# Altium footprint library Componets.PcbLib: 4 footprints
Each footprint in its own frame and in the unit in brackets; x right, y up, seen from the top. Pads: shape width x height; smd on the part's side, far side on the other; paste and mask are expansions set on the pad; w line width, h text height; cw(c..) or ccw(c..) is an arc to the next point about the centre after c.
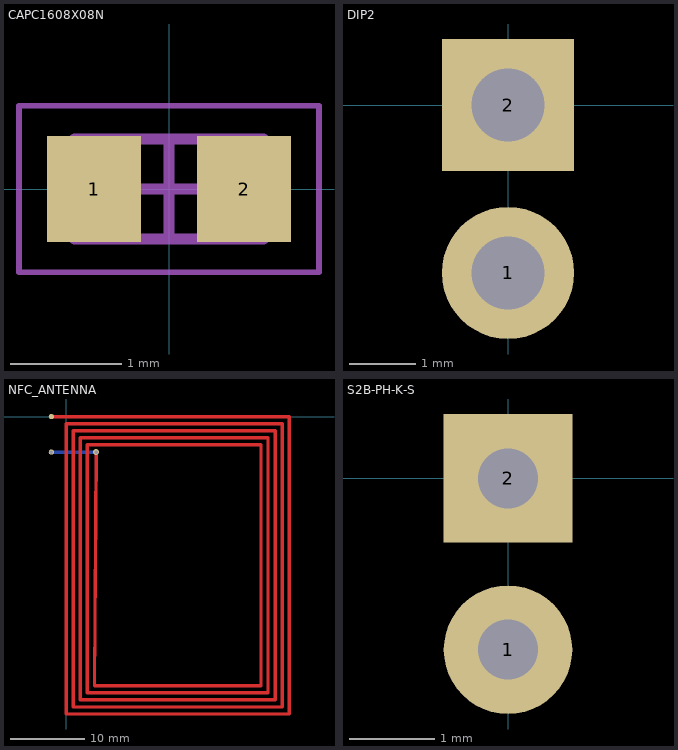
[diagram p0: the footprints below, top view; thin cyan lines are the x and y axes]

## CAPC1608X08N [mm] "Chip Capacitor, 2-Leads, Body 1,60x0,80mm, IPC Medium Density"
height 0.8
pads (2):
  rect 0.85x0.95 smd: 1(-0.675,0) 2(0.675,0)
Mechanical 13:
  lines w0.1: -0.85,-0.45 -0.85,0.45 0.85,0.45 0.85,-0.45 -0.85,-0.45
Mechanical 15:
  lines w0.05: -1.35,-0.75 -1.35,0.75 1.35,0.75 1.35,-0.75 -1.35,-0.75
  lines w0.1: -0.45,0 0.45,0 ; 0,-0.45 0,0.45
3D body "CAPC1608X08N.step": height 0.8, standoff 0, extent -0.85,-0.45 0.85,0.45

## DIP2 [mm]
pads (2):
  round 2 hole 1.1: 1(0,-2.54)
  rect 2x2 hole 1.1: 2(0,0)

## NFC_ANTENNA [mm]
pads (2):
  round 0.7 hole 0.45 unplated: 1(-2,-4.775)
  round 0.7 smd: 2(-2,0)
via 4.025,-4.775 diameter 0.8 hole 0.45
Top Layer:
  lines w0.45: -2,0 0,0 30,0 30,-40 0,-40 0,-0.95 29.05,-0.95 29.05,-39.05 0.95,-39.05 0.95,-1.9 28.1,-1.9 28.1,-38.1 1.9,-38.1 1.9,-2.85 27.15,-2.85 27.15,-37.15 2.85,-37.15 2.85,-3.8 26.2,-3.8 26.2,-36.2 3.8,-36.2 4.025,-4.775
Bottom Layer:
  lines w0.45: -2,-4.775 4.025,-4.775

## S2B-PH-K-S [mm]
pads (2):
  round 1.5 hole 0.7: 1(0,-2)
  rect 1.5x1.5 hole 0.7: 2(0,0)
3D body "S2B-PH-K-S.STEP": height 4.8, standoff -3.4, extent -6.225,-3.95 1.375,1.95